# Altium schematic symbol library DM3AT-SF-PEJM5.SCHLIB: 1 symbol
Pins are listed as number, name and electrical type; pins without a type are passive.

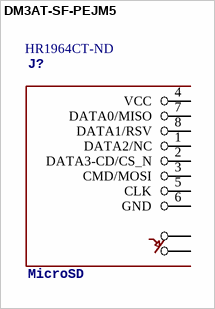
[diagram p0: symbol DM3AT-SF-PEJM5]

## DM3AT-SF-PEJM5
designator J?, comment MicroSD  Supplier Part Number 1: HR1964CT-ND
Hirose Electric Micro SD - DM3AT-SF-PEJM5; Supplier 1: Digi-Key
footprint DM3AT-SF-PEJM5
pins: 1 DATA2/NC, 2 DATA3-CD/CS_N, 3 CMD/MOSI, 4 VCC, 5 CLK, 6 GND, 7 DATA0/MISO, 8 DATA1/RSV, A, B